# Altium schematic symbol library BFCN-5540&plus_.SchLib: 2 symbols
Pins are listed as number, name and electrical type; pins without a type are passive.

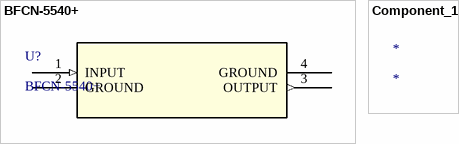
[diagram p0: symbols BFCN-5540+ to Component_1]

## BFCN-5540+
designator U?
No Description Available; Mfr_Name: Mini Circuits; Copyright: Copyright (C) 2023 Ultra Librarian. All rights reserved.; Manufacturer_Part_Number: BFCN-5540+; RefDes: RefDes; Type: DEV
footprint FV1206-4_MNC
pins: 1 INPUT (in), 2 GROUND (power), 3 OUTPUT (out), 4 GROUND (power)

## Component_1
designator *